# Altium footprint library LD1117S33CTR.PcbLib: 2 footprints
Each footprint in its own frame and in the unit in brackets; x right, y up, seen from the top. Pads: shape width x height; smd on the part's side, far side on the other; paste and mask are expansions set on the pad; w line width, h text height; cw(c..) or ccw(c..) is an arc to the next point about the centre after c.
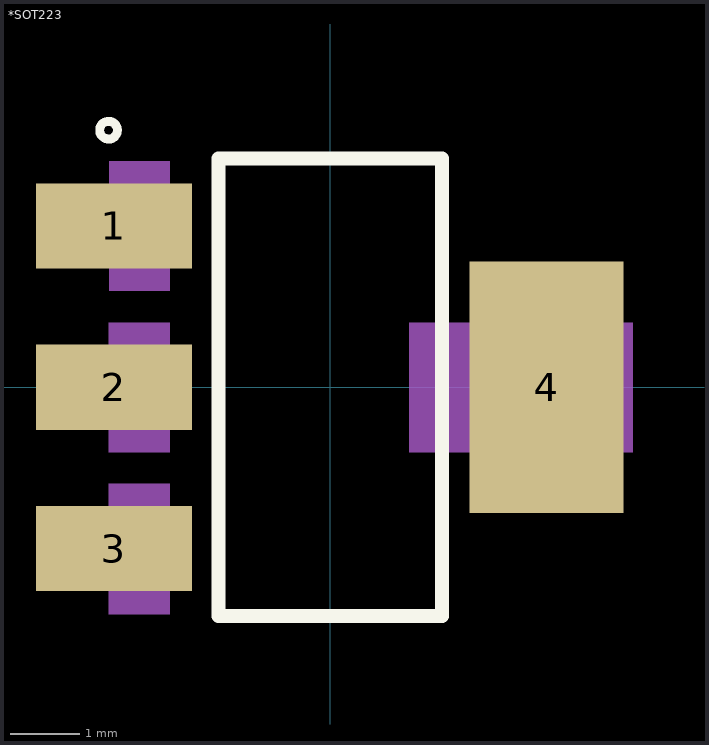
[diagram p0: the footprints below, top view; thin cyan lines are the x and y axes]

## *SOT223 [mil]
pads (4):
  rect 88x48 smd: 1(-122,91) 2(-122,0) 3(-122,-91)
  rect 86.61x141.73 smd: 4(122.01,0)
Top Overlay:
  circle w5: c-125,145 r5
  lines w8: -62.99,-129 -62.99,129 62.99,129 62.99,-129 -62.99,-129
Mechanical 4:
  region: -124.93,-54.5 -90.5,-54.5 -90.5,-127.94 -124.93,-127.94
  region: -124.66,127.5 -90.5,127.5 -90.5,54.57 -124.66,54.57
  region: -124.79,36.5 -90.5,36.5 -90.5,-36.58 -124.79,-36.58
  region: 44.56,36.5 170.5,36.5 170.5,-36.55 44.56,-36.55
  region: -124.61,-54.5 -90.5,-54.5 -90.5,-127.61 -124.61,-127.61
  region: -124.7,127.5 -90.5,127.5 -90.5,54.59 -124.7,54.59
  region: -124.61,36.5 -90.5,36.5 -90.5,-36.53 -124.61,-36.53
  region: -124.93,-54.5 -90.5,-54.5 -90.5,-127.94 -124.93,-127.94
  region: -124.66,127.5 -90.5,127.5 -90.5,54.57 -124.66,54.57
  region: -124.79,36.5 -90.5,36.5 -90.5,-36.58 -124.79,-36.58
  region: -124.61,-54.5 -90.5,-54.5 -90.5,-127.61 -124.61,-127.61
  region: -124.7,127.5 -90.5,127.5 -90.5,54.59 -124.7,54.59
  region: -124.61,36.5 -90.5,36.5 -90.5,-36.53 -124.61,-36.53
3D body "SOT-223.step": height 71.6, standoff 0.5, extent -143.5,-132.01 143.51,132.01

## PCBComponent_1 [mil]